# EAGLE library part POLOLUESTEPPERDRIVER (library reprap)
Pololu stepper driver based on the A4983.
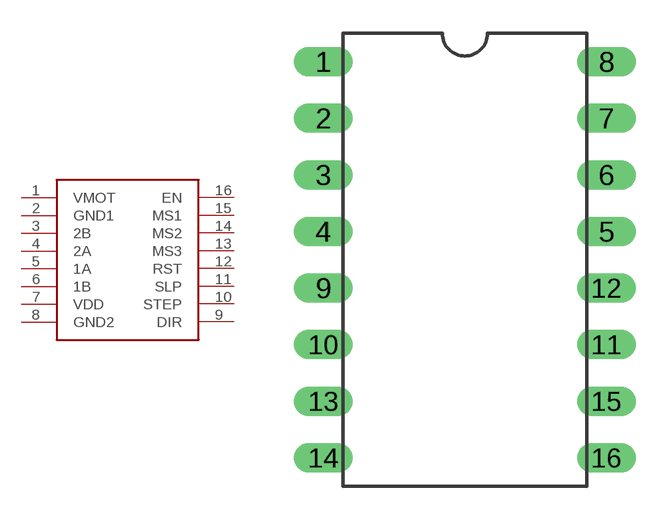
[diagram p12: symbol with the pads of DIL16; footprint DIL16]

Designator prefix -

## POLOLUESTEPPERDRIVER  [DIL16]
1  VMOT  pwr
2  GND1  pwr
3  2B  out
4  2A  out
5  1A  out
6  1B  out
7  VDD  pwr
8  GND2  pwr
9  DIR  in
10  STEP  in
11  SLP  in
12  RST  in
13  MS3  in
14  MS2  in
15  MS1  in
16  EN  in

## Footprint DIL16 (pad centres in mm)
drill 0.813 long: 1 -17.78,8.89; 2 -17.78,6.35; 3 -17.78,3.81; 4 -17.78,1.27; 5 -5.08,1.27; 6 -5.08,3.81; 7 -5.08,6.35; 8 -5.08,8.89; 9 -17.78,-1.27; 10 -17.78,-3.81; 11 -5.08,-3.81; 12 -5.08,-1.27; 13 -17.78,-6.35; 14 -17.78,-8.89; 15 -5.08,-6.35; 16 -5.08,-8.89